# Altium footprint library CON_USB_TypeB_TH.PcbLib: 1 footprints
Each footprint in its own frame and in the unit in brackets; x right, y up, seen from the top. Pads: shape width x height; smd on the part's side, far side on the other; paste and mask are expansions set on the pad; w line width, h text height; cw(c..) or ccw(c..) is an arc to the next point about the centre after c.
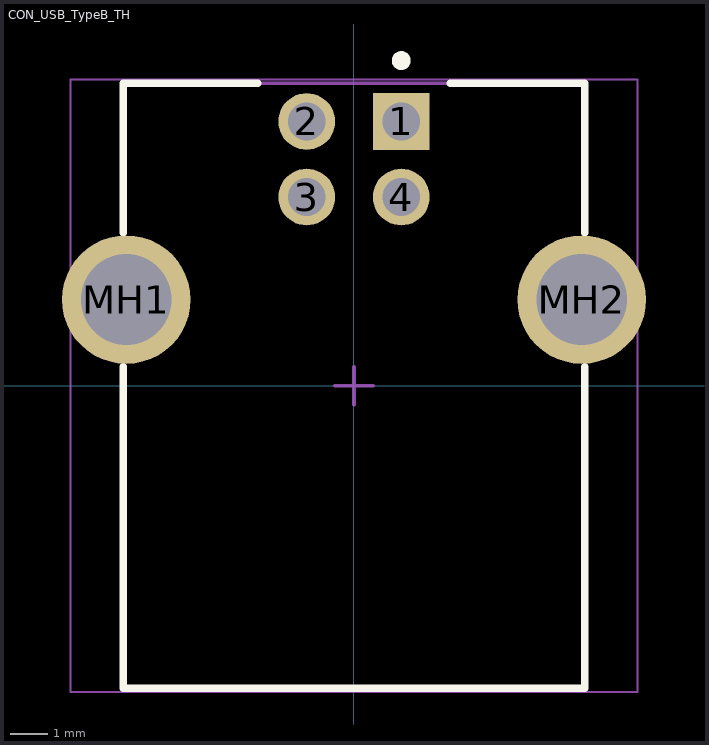
[diagram p0: the footprint, top view; thin cyan lines are the x and y axes]

## CON_USB_TypeB_TH [mm] "USB Type B Port with TH"
pads (6):
  rect 1.5x1.5 hole 1: 1(1.254,6.99)
  round 1.5 hole 1: 2(-1.246,6.99) 3(-1.246,4.99) 4(1.254,4.99)
  round 3.4 hole 2.4: MH1(-6.016,2.28) MH2(6.024,2.28)
Top Overlay:
  circle w0.25: c1.254,8.6 r0.125
  lines w0.2: -6.096,0.507 -6.096,-8 6.104,-8 6.104,0.507 ; -6.096,4.053 -6.096,8 -2.54,8 ; 2.548,8 6.104,8 6.104,4.053
Mechanical 13:
  lines w0.1: -6.096,-8 6.104,-8 6.104,8 -6.096,8 -6.096,-8
Mechanical 15:
  lines w0.05: -7.491,-8.1 -7.491,8.1 7.499,8.1 7.499,-8.1 -7.491,-8.1
  lines w0.1: -0.496,0 0.504,0 ; 0.004,-0.5 0.004,0.5
3D body: height 0, standoff -2.84, extent -1.445,4.791 -1.047,5.189
3D body: height 0, standoff -2.84, extent -1.445,6.791 -1.047,7.189
3D body: height 0, standoff -2.84, extent 1.055,6.791 1.453,7.189
3D body: height 0, standoff -2.84, extent 1.055,4.791 1.453,5.189
3D body "670688001.stp": height 11, standoff -4.22, extent -7.426,-8 7.434,9
3D body: height 0, standoff -2.84, extent 4.875,1.131 7.173,3.429
3D body: height 0, standoff -2.84, extent -7.165,1.131 -4.867,3.429